# Altium schematic symbol library LIS2DW12TR.SchLib: 1 symbol
Pins are listed as number, name and electrical type; pins without a type are passive.

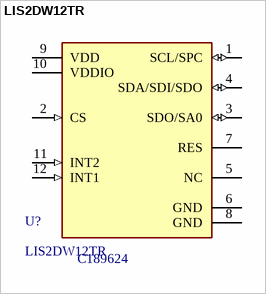
[diagram p0: symbol LIS2DW12TR]

## LIS2DW12TR
designator U?  LCSC: C189624
X,Y,Z LGA-12(2x2)  Attitude Sensor/Gyroscope ROHS
footprint LIS2DW12TR
pins: 1 SCL/SPC (io), 2 CS (in), 3 SDO/SA0 (io), 4 SDA/SDI/SDO (io), 5 NC, 6 GND (power), 7 RES, 8 GND (power), 9 VDD (power), 10 VDDIO (power), 11 INT2 (in), 12 INT1 (in)